# Altium schematic symbol library C3216X5R1E336M160AC.SchLib: 1 symbol
Pins are listed as number, name and electrical type; pins without a type are passive.

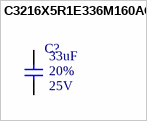
[diagram p0: symbol C3216X5R1E336M160AC]

## C3216X5R1E336M160AC
designator C?  Rated Voltage: 25V  Tolerance: 20%  Capacitence: 33uF  (hidden comment: C3216X5R1E336M160AC)
CAP CER 33UF 25V X5R 1206; MFR: TDK Corporation; PN: C3216X5R1E336M160AC; ComponentLink1Description: Datasheet; ComponentLink1URL: https://product.tdk.com/en/system/files?file=dam/doc/product/capacitor/ceramic/mlcc/catalog/mlcc_commercial_general_en.pdf; Temperature Coefficient: X5R; Package: 1206; Footprint: C1206; Supplier 1: Mouser; Supplier Part Number 1: 810-C3216X5R1E336M
footprint C1206 (A generic C1206 footprint)
pins: 1, 2